# Altium schematic symbol library 温控库.SchLib: 2 symbols
Pins are listed as number, name and electrical type; pins without a type are passive.

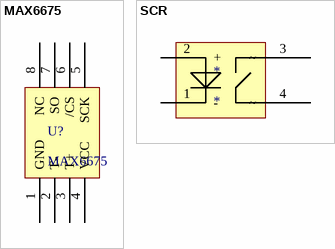
[diagram p0: symbols MAX6675 to SCR]

## MAX6675
designator U?
footprint SO-8
pins: 1 GND, 2 T-, 3 T+, 4 VCC, 5 SCK, 6 /CS, 7 SO, 8 NC

## SCR
designator *
pins: 1 -, 2 +, 3 ~, 4 ~